# Altium footprint library Altium-GEN.PcbLib: 7 footprints
Each footprint in its own frame and in the unit in brackets; x right, y up, seen from the top. Pads: shape width x height; smd on the part's side, far side on the other; paste and mask are expansions set on the pad; w line width, h text height; cw(c..) or ccw(c..) is an arc to the next point about the centre after c.
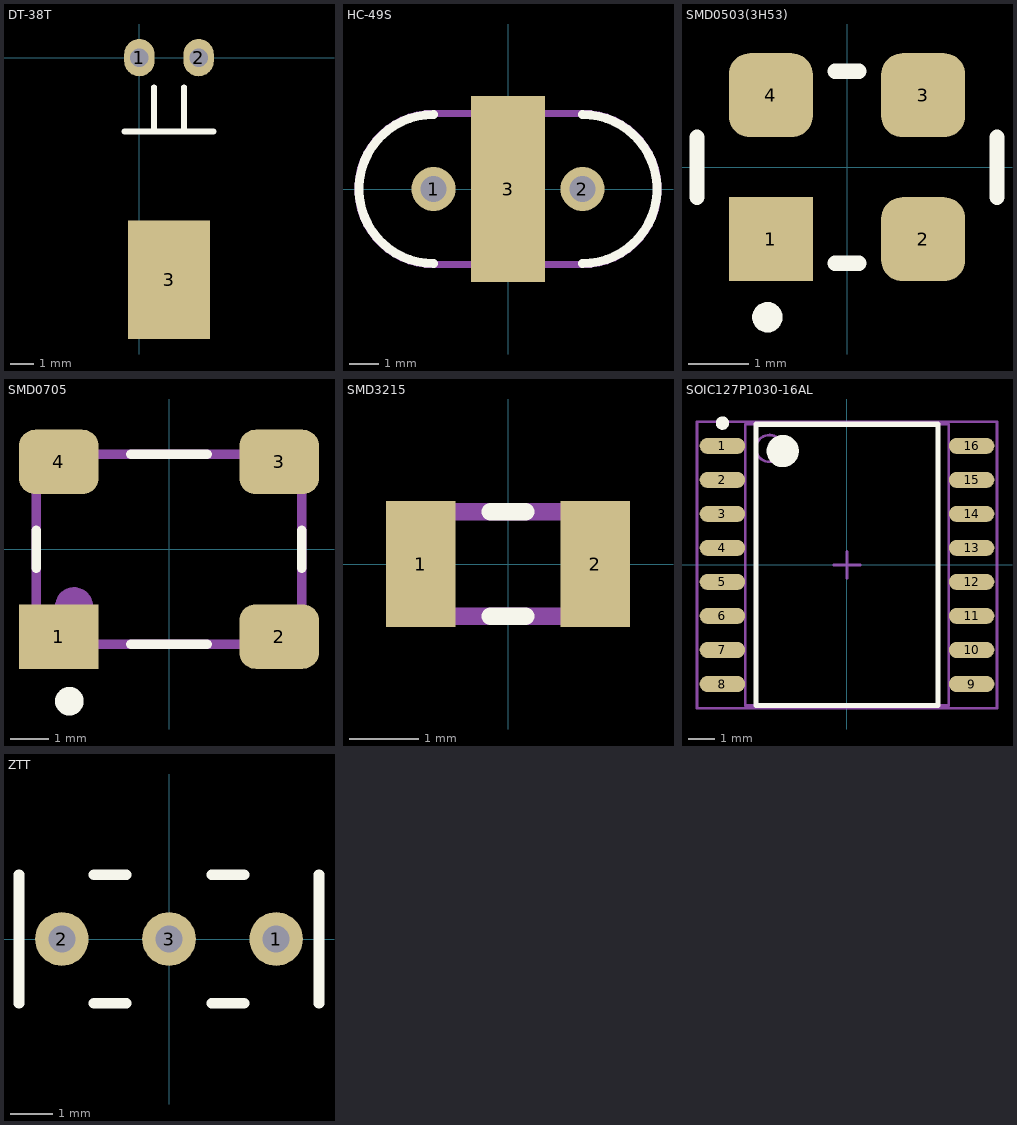
[diagram p0: the footprints below, top view; thin cyan lines are the x and y axes]

## DT-38T [mm]
height 3
pads (3):
  oval 1.3x1.6 hole 0.8: 1(0,0) 2(2.54,0)
  rect 3.505x5.08 smd: 3(1.27,-9.525)
Top Overlay:
  lines w0.254: -0.635,-3.175 3.175,-3.175 ; 0.635,-3.175 0.635,-1.27 ; 1.905,-3.175 1.905,-1.27
3D body: height 3, standoff 0, extent -0.254,-11.684 2.794,-3.302

## HC-49S [mm]
height 4.7
pads (3):
  round 1.5 hole 0.9: 1(-2.54,0) 2(2.54,0)
  rect 2.54x6.35 smd: 3(0,0)
Top Overlay:
  lines w0.305: -2.54,-2.54 cw(c-2.54,0) -2.54,2.54 ; 2.54,-2.54 ccw(c2.54,0) 2.54,2.54
Mechanical 13:
  lines w0.254: -2.54,-2.575 cw(c-2.54,0) -2.54,2.575 2.54,2.575 cw(c2.54,0) 2.54,-2.575 -2.54,-2.575
  text ".Designator" at -4.2,3.625 h2
3D body: height 4.7, standoff 0.5, extent -3.2,-1.85 3.25,1.85
3D body: height 4.7, standoff 0.5, extent 0.615,-1.846 4.3,1.846
3D body: height 4.7, standoff 0.5, extent -4.3,-1.846 -0.615,1.846

## SMD0503(3H53) [mm]
height 1.2
pads (4):
  rect 1.4x1.4 smd: 1(-1.27,-1.2)
  rrect50% 1.4x1.4 smd: 2(1.27,-1.2) 3(1.27,1.2) 4(-1.27,1.2)
Top Overlay:
  circle w0.254: c-1.327,-2.5 r0.127
  lines w0.254: -2.5,-0.5 -2.5,0.5 ; -0.2,-1.6 0.2,-1.6 ; -0.2,1.6 0.2,1.6 ; 2.5,-0.5 2.5,0.5
3D body: height 1.6, standoff 0, extent -2.5,-1.6 2.5,1.6

## SMD0705 [mm]
pads (4):
  rect 2.1x1.7 smd: 1(-2.9,-2.3)
  rrect50% 2.1x1.7 smd: 2(2.9,-2.3) 3(2.9,2.3) 4(-2.9,2.3)
Top Overlay:
  circle w0.5: c-2.623,-4 r0.127
  lines w0.254: -3.5,-0.5 -3.5,0.5 ; -1,-2.5 1,-2.5 ; -1,2.5 1,2.5 ; 3.5,-0.5 3.5,0.5
Mechanical 13:
  circle w0.5: c-2.5,-1.5 r0.25
  lines w0.254: -3,-2.5 -3,-2.25 -2,-2.25 -2,-2.5 ; -3,2.5 -3,2.25 -2,2.25 -2,2.5 ; 2,-2.5 2,-2.25 3,-2.25 3,-2.5 ; 2,2.5 2,2.25 3,2.25 3,2.5 ; -3.5,-2.5 -3.5,2.5 3.5,2.5 3.5,-2.5 -3.5,-2.5
  text ".Designator" at -2.225,3.625 h2
3D body: height 1.6, standoff 0, extent -3.5,-2.5 3.5,2.5

## SMD3215 [mm]
height 0.8
pads (2):
  rect 1x1.8 smd: 1(-1.25,0) 2(1.25,0)
Top Overlay:
  lines w0.254: -0.25,-0.75 0.25,-0.75 ; -0.25,0.75 0.25,0.75
Mechanical 13:
  lines w0.254: -1.6,-0.75 -1.6,0.75 1.6,0.75 1.6,-0.75 -1.6,-0.75
  text ".Designator" at -1.475,1.575 h2
3D body: height 0.8, standoff 0, extent -1.6,-0.75 1.6,0.75

## SOIC127P1030-16AL [mm] "SOIC, 16-Leads, Body 10.3x7.5mm, Pitch 1.27mm, IPC High Density"
height 2.67
pads (16):
  oval 1.7x0.6 smd: 1(-4.65,4.445) 2(-4.65,3.175) 3(-4.65,1.905) 4(-4.65,0.635) 5(-4.65,-0.635) 6(-4.65,-1.905) 7(-4.65,-3.175) 8(-4.65,-4.445) 9(4.65,-4.445) 10(4.65,-3.175) 11(4.65,-1.905) 12(4.65,-0.635) 13(4.65,0.635) 14(4.65,1.905) 15(4.65,3.175) 16(4.65,4.445)
Top Overlay:
  circle w0.6: c-2.4,4.25 r0.3
  circle w0.25: c-4.65,5.295 r0.125
  lines w0.2: -3.4,-5.25 3.4,-5.25 3.4,5.25 -3.4,5.25 -3.4,-5.25
Mechanical 13:
  circle w0.1: c-2.9,4.35 r0.5
  lines w0.1: -3.8,-5.25 3.8,-5.25 3.8,5.25 -3.8,5.25 -3.8,-5.25
Mechanical 15:
  lines w0.1: -0.5,0 0.5,0 ; 0,-0.5 0,0.5 ; -5.6,-5.35 5.6,-5.35 5.6,5.35 -5.6,5.35 -5.6,-5.35
3D body: height 2.55, standoff 0, extent -5.1,-5.15 5.2,5.15

## ZTT [mm]
height 10
pads (3):
  round 1.27 hole 0.635: 1(2.54,0) 2(-2.54,0) 3(0,0)
Top Overlay:
  lines w0.254: -3.556,-1.524 -3.556,1.524 ; -1.778,-1.524 -1.016,-1.524 ; -1.778,1.524 -1.016,1.524 ; 1.016,-1.524 1.778,-1.524 ; 1.016,1.524 1.778,1.524 ; 3.556,-1.524 3.556,1.524
3D body: height 10, standoff 0, extent -3.683,-1.651 3.683,1.651